# Altium schematic symbol library OV5460.SCHLIB: 13 symbols
Pins are listed as number, name and electrical type; pins without a type are passive.

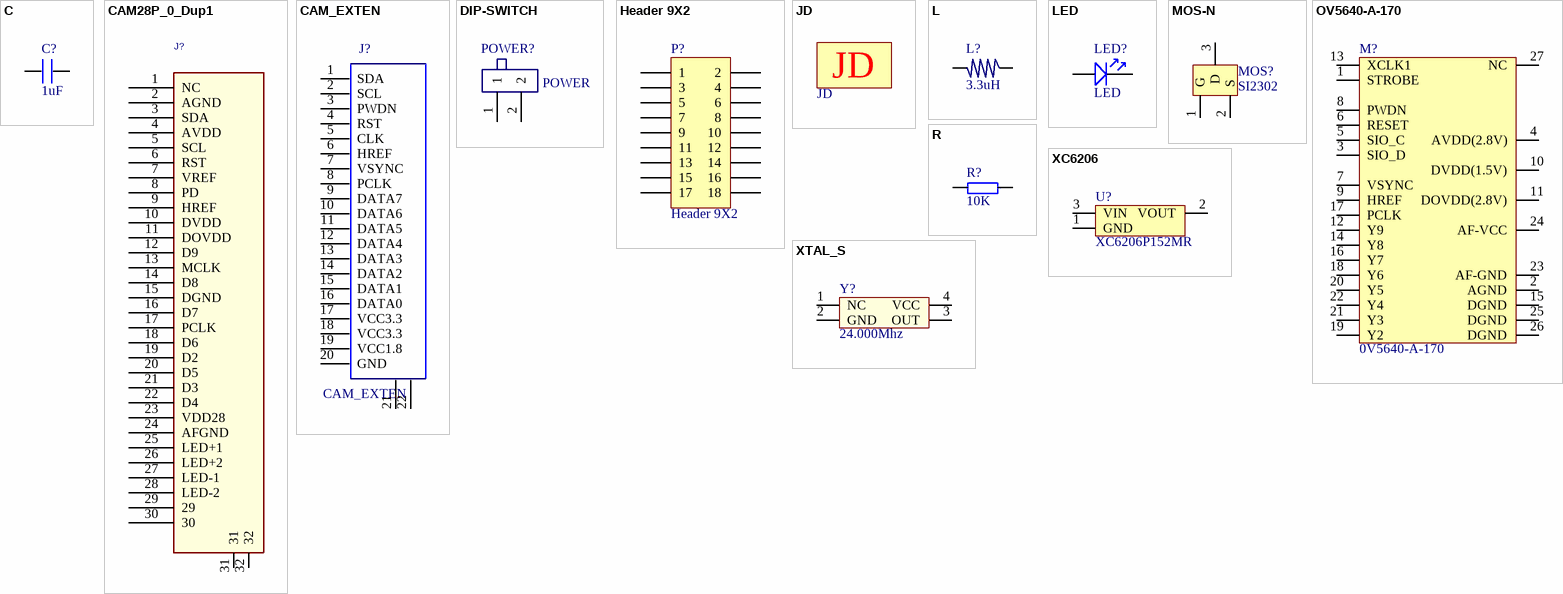
[diagram p0: symbols C to XTAL_S]

## C
designator C?, comment 1uF
footprint 0603P
footprint 0805
footprint CC5.08 (CAP0.1)
footprint CC4.572 (222/332)
footprint 1206
footprint 1210
footprint CC6.096
footprint CC7.62
footprint CVAR (4MM*6.6MM)
pins: 1, 2

## CAM28P_0_Dup1
designator J?, comment FPC30P  (value not drawn)
footprint FPC30P-0D5A
footprint FPC30P-0D5A
pins: 1 NC, 2 AGND, 3 SDA, 4 AVDD, 5 SCL, 6 RST, 7 VREF, 8 PD, 9 HREF, 10 DVDD, 11 DOVDD, 12 D9, 13 MCLK, 14 D8, 15 DGND, 16 D7, 17 PCLK, 18 D6, 19 D2, 20 D5, 21 D3, 22 D4, 23 VDD28, 24 AFGND, 25 LED+1, 26 LED+2, 27 LED-1, 28 LED-2, 29, 30, 31, 32

## CAM_EXTEN
designator J?
PCB DECAL: IDC20S
footprint FPC-20P
pins: 1 SDA, 2 SCL, 3 PWDN, 4 RST, 5 CLK, 6 HREF, 7 VSYNC, 8 PCLK, 9 DATA7, 10 DATA6, 11 DATA5, 12 DATA4, 13 DATA3, 14 DATA2, 15 DATA1, 16 DATA0, 17 VCC3.3, 18 VCC3.3, 19 VCC1.8, 20 GND, 21 GND, 22 GND

## DIP-SWITCH
designator POWER?, comment POWER
DIP-SWITCH
footprint DIPSWITCH-2P
pins: 1, 2

## Header 9X2
designator P?
Header, 9-Pin, Dual row; LatestRevisionDate: 17-Jul-2002; LatestRevisionNote: Re-released for DXP Platform.; Publisher: Altium Limited
footprint HDR-2X9
pins: 1, 2, 3, 4, 5, 6, 7, 8, 9, 10, 11, 12, 13, 14, 15, 16, 17, 18

## JD
designator 1?
footprint LOGOTOP

## L
designator L?, comment 3.3uH
footprint L3A (L)
footprint L4.7
footprint L_USER (SELF_DEF)
footprint L10 (10mH)
footprint SMD7850
footprint 0805
footprint 1206
footprint L_SOPL (L_LARGE)
footprint L_CD43 (4mm*4mm)
footprint 0603P
footprint L_SOP4 (4mm*4mm*1.7mm)
pins: 1, 2

## LED
designator LED?
footprint LED-DIP (PIN:2.54MM;H:5MM;)
footprint SMDLED-0603 (0603)
footprint SMDLED-0805 (0805)
footprint SMDLED-3528
pins: 1, 2

## MOS-N
designator MOS?, comment SI2302
AP2306
footprint SO-G3/C2.5 (SOT-23; 3 Leads; Body 3.0 x 2.6 mm, inc. leads (LxW max))
pins: 1 G, 2 S, 3 D

## OV5640-A-170
designator M?, comment 0V5640-A-170
OV5640-A-170,AF,FPC
footprint OV5640-A-170
pins: 1 STROBE, 2 AGND, 3 SIO_D, 4 AVDD(2.8V), 5 SIO_C, 6 RESET, 7 VSYNC, 8 PWDN, 9 HREF, 10 DVDD(1.5V), 11 DOVDD(2.8V), 12 Y9, 13 XCLK1, 14 Y8, 15 DGND, 16 Y7, 17 PCLK, 18 Y6, 19 Y2, 20 Y5, 21 Y3, 22 Y4, 23 AF-GND, 24 AF-VCC, 25 DGND, 26 DGND, 27 NC

## R
designator R?, comment 10K
footprint 0805
footprint 0603P
footprint RL (10o/0.7uH)
footprint R16.0 (RX/1W)
footprint 1206
footprint 1210
footprint R20.0 (RX/2W)
footprint R10.16 (STD)
footprint RLN9 (13.5mm*5.1mm)
footprint 0402
pins: 1, 2

## XC6206
designator U?, comment XC6206P152MR
LDO,SOT23,1.2~5.0V
footprint SOT-23 (SOT-23; 3 Leads; Body 3.0 x 2.5 mm, inc. leads (LxW max))
pins: 1 GND, 2 VOUT, 3 VIN

## XTAL_S
designator Y?, comment 24.000Mhz
有源晶振
footprint XTAL_S (XTAL_OSC)
footprint XTAL3225
pins: 1 NC, 2 GND, 3 OUT, 4 VCC